# Altium footprint library WSOF6.PcbLib: 1 footprints
Each footprint in its own frame and in the unit in brackets; x right, y up, seen from the top. Pads: shape width x height; smd on the part's side, far side on the other; paste and mask are expansions set on the pad; w line width, h text height; cw(c..) or ccw(c..) is an arc to the next point about the centre after c.
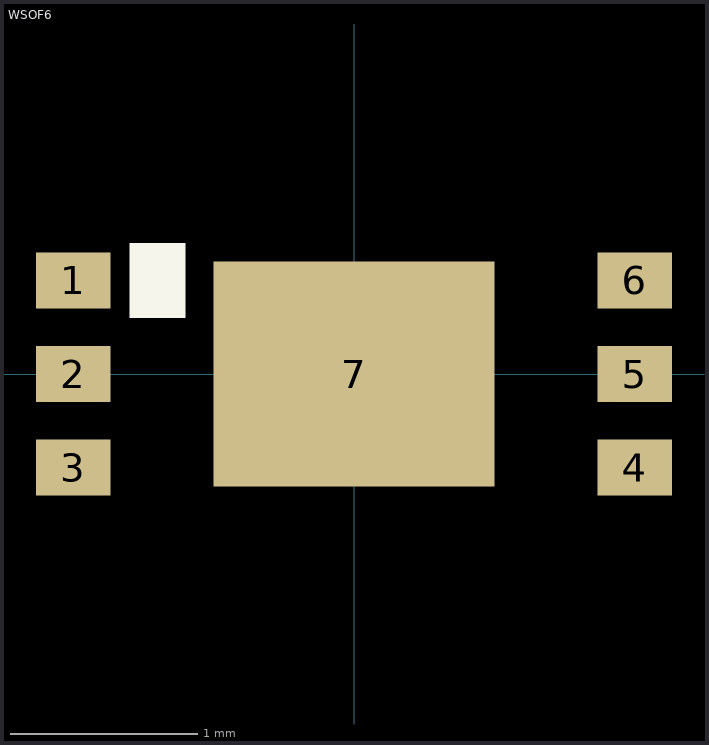
[diagram p0: the footprint, top view; thin cyan lines are the x and y axes]

## WSOF6 [mm] "SMD 1.60mm x 3.00mm x 0.75mm"
height 0.75
pads (7):
  rect 0.4x0.3 smd: 1(-1.5,0.5) 2(-1.5,0) 3(-1.5,-0.5) 4(1.5,-0.5) 5(1.5,0) 6(1.5,0.5)
  rect 1.5x1.2 smd: 7(0,0)
Top Overlay:
  rectangle: -1.2,0.3 -0.9,0.7
3D body "User Library-BH1750FVI-1.step": height 0.75, standoff -0.01, extent -1.5,-0.8 1.5,0.8